# Altium schematic symbol library shunt_resister_package.SchLib: 1 symbol
Pins are listed as number, name and electrical type; pins without a type are passive.

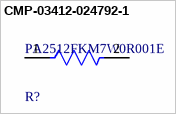
[diagram p0: symbol CMP-03412-024792-1]

## CMP-03412-024792-1
designator R?, comment PA2512FKM7W0R001E
METAL CURRENT SENSOR 2512 1% 75P; Manufacturer: Yageo; Resistance: 1mΩ; Power Rating: 2W; Temperature Coefficient: 75ppm/°C; Value: 1mΩ; Automotive Grade: Grade 0; Lead Free: Yes; Ipc Land Pattern Name: RESC635318X63; Series: PA_E; Digikey Description: METAL CURRENT SENSOR 2512 1% 75P; Temperature: -55°C to +170°C; ComponentLink2URL: http://www.yageo.com/documents/recent/PYu-PA_E_51_RoHS_10.pdf; Device Class L1: Passive Components; Octopart: https://octopart.com/pa2512fkm7w0r001e-yageo-94661137; Category: Res; RoHS: TRUE; Device Class L2: Resistors; Tolerance: 1%; ComponentLink2Description: Datasheet; Composition: Metal Element; Manufacturer Part Number: PA2512FKM7W0R001E; Temperature Range High: +170°C; Temperature Range Low: -55°C; Height: 0.88mm; Device Class L3: Chip SMD Resistors; Automotive: Yes; Package: PA2512E-0R001-0R004
footprint FP-PA2512E-0R001-0R004-IPC_A
footprint FP-PA2512E-0R001-0R004-MFG
footprint FP-PA2512E-0R001-0R004-IPC_C
footprint FP-PA2512E-0R001-0R004-IPC_B
pins: 1, 2